# Altium schematic symbol library IEAv.SCHLIB: 1 symbol
Pins are listed as number, name and electrical type; pins without a type are passive.

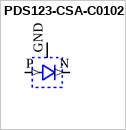
[diagram p0: symbol PDS123-CSA-C0102]

## PDS123-CSA-C0102
designator PD?
Text Field1: 10; Text Field2: 20
footprint Photodetector
pins: GND, N (out), P (in)